# Altium footprint library TAUV-Lib.PcbLib: 56 footprints (part 4 of 4)
Each footprint in its own frame and in the unit in brackets; x right, y up, seen from the top. Pads: shape width x height; smd on the part's side, far side on the other; paste and mask are expansions set on the pad; w line width, h text height; cw(c..) or ccw(c..) is an arc to the next point about the centre after c.
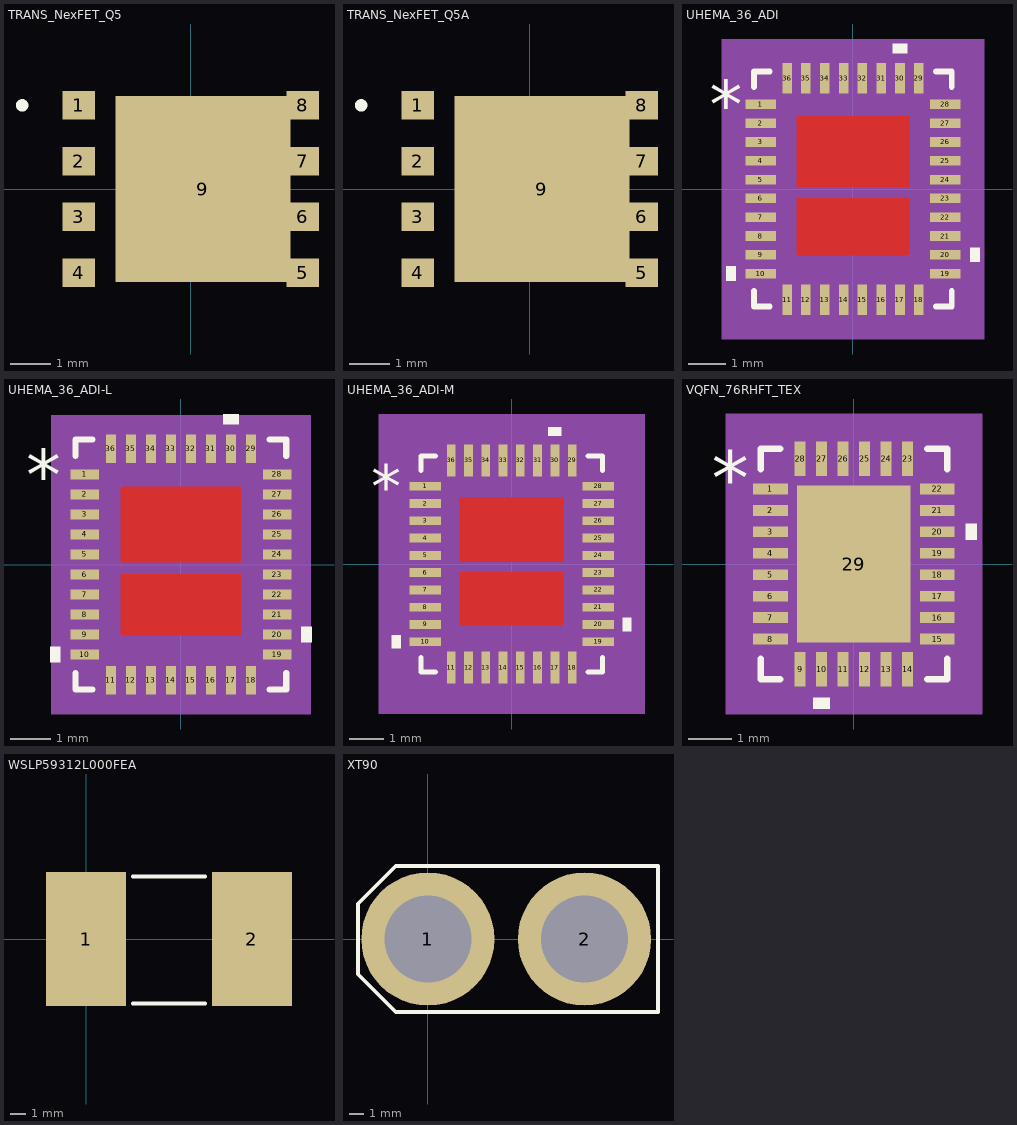
[diagram p3: the footprints below, top view; thin cyan lines are the x and y axes]

## TRANS_NexFET_Q5 [mm]
pads (9):
  rect 0.8x0.7 smd paste-0.387: 1(-2.752,2.055) 2(-2.752,0.685) 3(-2.752,-0.685) 4(-2.752,-2.055) 5(2.752,-2.055) 6(2.752,-0.685) 7(2.752,0.685) 8(2.752,2.055)
  rect 4.3x4.56 smd paste-2.267 mask+0.025: 9(0.3,0)
Top Overlay:
  circle w0.152: c-4.141,2.055 r0.076
Top Paste:
  region: -0.617,2.18 -1.85,2.18 -1.85,0.86 -0.617,0.86
  region: -0.617,0.66 -1.85,0.66 -1.85,-0.66 -0.617,-0.66
  region: -0.617,-0.86 -1.85,-0.86 -1.85,-2.18 -0.617,-2.18
  region: 0.817,2.18 -0.417,2.18 -0.417,0.86 0.817,0.86
  region: 0.817,0.66 -0.417,0.66 -0.417,-0.66 0.817,-0.66
  region: 0.817,-0.86 -0.417,-0.86 -0.417,-2.18 0.817,-2.18
  region: 2.25,2.18 1.017,2.18 1.017,0.86 2.25,0.86
  region: 2.25,0.66 1.017,0.66 1.017,-0.66 2.25,-0.66
  region: 2.25,-0.86 1.017,-0.86 1.017,-2.18 2.25,-2.18
  region: -2.352,2.405 -3.153,2.405 -3.153,1.705 -2.352,1.705
  region: -2.352,1.035 -3.153,1.035 -3.153,0.335 -2.352,0.335
  region: -2.352,-0.335 -3.153,-0.335 -3.153,-1.035 -2.352,-1.035
  region: -2.352,-1.705 -3.153,-1.705 -3.153,-2.405 -2.352,-2.405
  region: 3.153,-1.705 2.352,-1.705 2.352,-2.405 3.153,-2.405
  region: 3.153,-0.335 2.352,-0.335 2.352,-1.035 3.153,-1.035
  region: 3.153,1.035 2.352,1.035 2.352,0.335 3.153,0.335
  region: 3.153,2.405 2.352,2.405 2.352,1.705 3.153,1.705
Top Solder:
  region: -2.352,2.405 -3.153,2.405 -3.153,1.705 -2.352,1.705
  region: -2.352,1.035 -3.153,1.035 -3.153,0.335 -2.352,0.335
  region: -2.352,-0.335 -3.153,-0.335 -3.153,-1.035 -2.352,-1.035
  region: -2.352,-1.705 -3.153,-1.705 -3.153,-2.405 -2.352,-2.405
  region: 3.153,-1.705 2.352,-1.705 2.352,-2.405 3.153,-2.405
  region: 3.153,-0.335 2.352,-0.335 2.352,-1.035 3.153,-1.035
  region: 3.153,1.035 2.352,1.035 2.352,0.335 3.153,0.335
  region: 3.153,2.405 2.352,2.405 2.352,1.705 3.153,1.705
  region: 2.35,-2.28 2.35,2.28 -1.95,2.28 -1.95,-2.28
3D body: height 0.25, standoff 0, extent 0,0 0.254,0.254

## TRANS_NexFET_Q5A [mm]
pads (9):
  rect 0.8x0.7 smd paste-0.387: 1(-2.752,2.055) 2(-2.752,0.685) 3(-2.752,-0.685) 4(-2.752,-2.055) 5(2.752,-2.055) 6(2.752,-0.685) 7(2.752,0.685) 8(2.752,2.055)
  rect 4.3x4.56 smd paste-2.267 mask+0.025: 9(0.3,0)
Top Overlay:
  circle w0.152: c-4.141,2.055 r0.076
Top Paste:
  region: 3.153,2.405 2.352,2.405 2.352,1.705 3.153,1.705
  region: 3.153,1.035 2.352,1.035 2.352,0.335 3.153,0.335
  region: 3.153,-0.335 2.352,-0.335 2.352,-1.035 3.153,-1.035
  region: 3.153,-1.705 2.352,-1.705 2.352,-2.405 3.153,-2.405
  region: -2.352,-1.705 -3.153,-1.705 -3.153,-2.405 -2.352,-2.405
  region: -2.352,-0.335 -3.153,-0.335 -3.153,-1.035 -2.352,-1.035
  region: -2.352,1.035 -3.153,1.035 -3.153,0.335 -2.352,0.335
  region: -2.352,2.405 -3.153,2.405 -3.153,1.705 -2.352,1.705
  region: 2.25,-0.86 1.017,-0.86 1.017,-2.18 2.25,-2.18
  region: 2.25,0.66 1.017,0.66 1.017,-0.66 2.25,-0.66
  region: 2.25,2.18 1.017,2.18 1.017,0.86 2.25,0.86
  region: 0.817,-0.86 -0.417,-0.86 -0.417,-2.18 0.817,-2.18
  region: 0.817,0.66 -0.417,0.66 -0.417,-0.66 0.817,-0.66
  region: 0.817,2.18 -0.417,2.18 -0.417,0.86 0.817,0.86
  region: -0.617,-0.86 -1.85,-0.86 -1.85,-2.18 -0.617,-2.18
  region: -0.617,0.66 -1.85,0.66 -1.85,-0.66 -0.617,-0.66
  region: -0.617,2.18 -1.85,2.18 -1.85,0.86 -0.617,0.86
Top Solder:
  region: 2.35,-2.28 2.35,2.28 -1.95,2.28 -1.95,-2.28
  region: 3.153,2.405 2.352,2.405 2.352,1.705 3.153,1.705
  region: 3.153,1.035 2.352,1.035 2.352,0.335 3.153,0.335
  region: 3.153,-0.335 2.352,-0.335 2.352,-1.035 3.153,-1.035
  region: 3.153,-1.705 2.352,-1.705 2.352,-2.405 3.153,-2.405
  region: -2.352,-1.705 -3.153,-1.705 -3.153,-2.405 -2.352,-2.405
  region: -2.352,-0.335 -3.153,-0.335 -3.153,-1.035 -2.352,-1.035
  region: -2.352,1.035 -3.153,1.035 -3.153,0.335 -2.352,0.335
  region: -2.352,2.405 -3.153,2.405 -3.153,1.705 -2.352,1.705
3D body: height 0.25, standoff 0, extent 0,0 0.254,0.254

## UHEMA_36_ADI [mil]
pads (36):
  rect 32x10 smd paste+0 mask+0: 1(-96.5,88.58) 2(-96.5,68.9) 3(-96.5,49.21) 4(-96.5,29.53) 5(-96.5,9.84) 6(-96.5,-9.84) 7(-96.5,-29.53) 8(-96.5,-49.21) 9(-96.5,-68.9) 10(-96.5,-88.58) 19(96.5,-88.58) 20(96.5,-68.9) 21(96.5,-49.21) 22(96.5,-29.53) 23(96.5,-9.84) 24(96.5,9.84) 25(96.5,29.53) 26(96.5,49.21) 27(96.5,68.9) 28(96.5,88.58)
  rect 10x32 smd paste+0 mask+0: 11(-68.9,-116) 12(-49.21,-116) 13(-29.53,-116) 14(-9.84,-116) 15(9.84,-116) 16(29.53,-116) 17(49.21,-116) 18(68.9,-116) 29(68.9,116) 30(49.21,116) 31(29.53,116) 32(9.84,116) 33(-9.84,116) 34(-29.53,116) 35(-49.21,116) 36(-68.9,116)
Top Layer:
  region: -59,2.37 -59,76.37 59,76.37 59,2.37
  region: -59,-69.57 -59,-9.57 59,-9.57 59,-69.57
Top Overlay:
  region: -122.5,-81.08 -132.5,-81.08 -132.5,-96.08 -122.5,-96.08
  region: 122.5,-61.4 132.5,-61.4 132.5,-76.4 122.5,-76.4
  region: 56.71,142 41.71,142 41.71,152 56.71,152
  lines w6: -103.5,-106.68 -103.5,-123 -87,-123 ; -103.5,106.68 -103.5,123 -87,123 ; 87,-123 103.5,-123 103.5,-106.68 ; 87,123 103.5,123 103.5,106.68
  text "*" at -150,63.58 h50
Top Paste:
  region: -59,2.37 -59,76.37 59,76.37 59,2.37
  region: -59,-69.57 -59,-9.57 59,-9.57 59,-69.57
Top Solder:
  region: -59,2.37 -59,76.37 59,76.37 59,2.37
  region: -59,-69.57 -59,-9.57 59,-9.57 59,-69.57
Mechanical 5:
  region: 137.5,-157 -137.5,-157 -137.5,157 137.5,157
Mechanical 13:
  lines w1: -98.5,68 -48.5,118 ; -100.5,-94.58 -100.5,-82.58 -98.5,-82.58 -98.5,-94.58 -100.5,-94.58 ; -100.5,-74.9 -100.5,-62.9 -98.5,-62.9 -98.5,-74.9 -100.5,-74.9 ; -100.5,-55.21 -100.5,-43.21 -98.5,-43.21 -98.5,-55.21 -100.5,-55.21 ; -100.5,-35.53 -100.5,-23.53 -98.5,-23.53 -98.5,-35.53 -100.5,-35.53 ; -100.5,-15.84 -100.5,-3.84 -98.5,-3.84 -98.5,-15.84 -100.5,-15.84 ; -100.5,3.84 -100.5,15.84 -98.5,15.84 -98.5,3.84 -100.5,3.84 ; -100.5,23.53 -100.5,35.53 -98.5,35.53 -98.5,23.53 -100.5,23.53 ; -100.5,43.21 -100.5,55.21 -98.5,55.21 -98.5,43.21 -100.5,43.21 ; -100.5,62.9 -100.5,74.9 -98.5,74.9 -98.5,62.9 -100.5,62.9 ; -100.5,82.58 -100.5,94.58 -98.5,94.58 -98.5,82.58 -100.5,82.58 ; -98.5,-118 98.5,-118 98.5,118 -98.5,118 -98.5,-118 ; -74.9,-120 -74.9,-118 -62.9,-118 -62.9,-120 -74.9,-120 ; -74.9,118 -62.9,118 -62.9,120 -74.9,120 -74.9,118 ; -55.21,-120 -55.21,-118 -43.21,-118 -43.21,-120 -55.21,-120 ; -55.21,118 -43.21,118 -43.21,120 -55.21,120 -55.21,118 ; -35.53,-120 -35.53,-118 -23.53,-118 -23.53,-120 -35.53,-120 ; -35.53,118 -23.53,118 -23.53,120 -35.53,120 -35.53,118 ; -15.84,-120 -15.84,-118 -3.84,-118 -3.84,-120 -15.84,-120 ; -15.84,118 -3.84,118 -3.84,120 -15.84,120 -15.84,118 ; 3.84,-120 3.84,-118 15.84,-118 15.84,-120 3.84,-120 ; 3.84,118 15.84,118 15.84,120 3.84,120 3.84,118 ; 23.53,-120 23.53,-118 35.53,-118 35.53,-120 23.53,-120 ; 23.53,118 35.53,118 35.53,120 23.53,120 23.53,118 ; 43.21,-120 43.21,-118 55.21,-118 55.21,-120 43.21,-120 ; 43.21,118 55.21,118 55.21,120 43.21,120 43.21,118 ; 62.9,-120 62.9,-118 74.9,-118 74.9,-120 62.9,-120 ; 62.9,118 74.9,118 74.9,120 62.9,120 62.9,118 ; 98.5,-94.58 98.5,-82.58 100.5,-82.58 100.5,-94.58 98.5,-94.58 ; 98.5,-74.9 98.5,-62.9 100.5,-62.9 100.5,-74.9 98.5,-74.9 ; 98.5,-55.21 98.5,-43.21 100.5,-43.21 100.5,-55.21 98.5,-55.21 ; 98.5,-35.53 98.5,-23.53 100.5,-23.53 100.5,-35.53 98.5,-35.53 ; 98.5,-15.84 98.5,-3.84 100.5,-3.84 100.5,-15.84 98.5,-15.84 ; 98.5,3.84 98.5,15.84 100.5,15.84 100.5,3.84 98.5,3.84 ; 98.5,23.53 98.5,35.53 100.5,35.53 100.5,23.53 98.5,23.53 ; 98.5,43.21 98.5,55.21 100.5,55.21 100.5,43.21 98.5,43.21 ; 98.5,62.9 98.5,74.9 100.5,74.9 100.5,62.9 98.5,62.9 ; 98.5,82.58 98.5,94.58 100.5,94.58 100.5,82.58 98.5,82.58
  text "*" at -68,63.58 h50
Mechanical 15:
  region: -83.9,-128 -108.5,-128 -108.5,-103.58 -122.5,-103.58 -122.5,103.58 -108.5,103.58 -108.5,128 -83.9,128 -83.9,142 83.9,142 83.9,128 108.5,128 108.5,103.58 122.5,103.58 122.5,-103.58 108.5,-103.58 108.5,-128 83.9,-128 83.9,-142 -83.9,-142
  lines w6: -122.5,-103.58 -108.5,-103.58 -108.5,-128 -83.9,-128 -83.9,-142 83.9,-142 83.9,-128 108.5,-128 108.5,-103.58 122.5,-103.58 122.5,103.58 108.5,103.58 108.5,128 83.9,128 83.9,142 -83.9,142 -83.9,128 -108.5,128 -108.5,103.58 -122.5,103.58 -122.5,-103.58
3D body "UHEMA_36_ADI.step": height 32.09, standoff 0, extent -100.51,-120 100.51,120

## UHEMA_36_ADI-L [mil]
pads (36):
  rect 28x10 smd paste+0 mask+0: 1(-94.5,88.58) 2(-94.5,68.9) 3(-94.5,49.21) 4(-94.5,29.53) 5(-94.5,9.84) 6(-94.5,-9.84) 7(-94.5,-29.53) 8(-94.5,-49.21) 9(-94.5,-68.9) 10(-94.5,-88.58) 19(94.5,-88.58) 20(94.5,-68.9) 21(94.5,-49.21) 22(94.5,-29.53) 23(94.5,-9.84) 24(94.5,9.84) 25(94.5,29.53) 26(94.5,49.21) 27(94.5,68.9) 28(94.5,88.58)
  rect 10x28 smd paste+0 mask+0: 11(-68.9,-114) 12(-49.21,-114) 13(-29.53,-114) 14(-9.84,-114) 15(9.84,-114) 16(29.53,-114) 17(49.21,-114) 18(68.9,-114) 29(68.9,114) 30(49.21,114) 31(29.53,114) 32(9.84,114) 33(-9.84,114) 34(-29.53,114) 35(-49.21,114) 36(-68.9,114)
Top Layer:
  region: -59,2.37 -59,76.37 59,76.37 59,2.37
  region: -59,-69.57 -59,-9.57 59,-9.57 59,-69.57
Top Overlay:
  region: -118.5,-81.08 -128.5,-81.08 -128.5,-96.08 -118.5,-96.08
  region: 118.5,-61.4 128.5,-61.4 128.5,-76.4 118.5,-76.4
  region: 56.71,138 41.71,138 41.71,148 56.71,148
  lines w6: -103.5,-106.68 -103.5,-123 -87,-123 ; -103.5,106.68 -103.5,123 -87,123 ; 87,-123 103.5,-123 103.5,-106.68 ; 87,123 103.5,123 103.5,106.68
  text "*" at -152,63.58 h50
Top Paste:
  region: -59,2.37 -59,76.37 59,76.37 59,2.37
  region: -59,-69.57 -59,-9.57 59,-9.57 59,-69.57
Top Solder:
  region: -59,2.37 -59,76.37 59,76.37 59,2.37
  region: -59,-69.57 -59,-9.57 59,-9.57 59,-69.57
Mechanical 5:
  region: 127.5,-147 -127.5,-147 -127.5,147 127.5,147
Mechanical 13:
  lines w1: -98.5,68 -48.5,118 ; -100.5,-94.58 -100.5,-82.58 -98.5,-82.58 -98.5,-94.58 -100.5,-94.58 ; -100.5,-74.9 -100.5,-62.9 -98.5,-62.9 -98.5,-74.9 -100.5,-74.9 ; -100.5,-55.21 -100.5,-43.21 -98.5,-43.21 -98.5,-55.21 -100.5,-55.21 ; -100.5,-35.53 -100.5,-23.53 -98.5,-23.53 -98.5,-35.53 -100.5,-35.53 ; -100.5,-15.84 -100.5,-3.84 -98.5,-3.84 -98.5,-15.84 -100.5,-15.84 ; -100.5,3.84 -100.5,15.84 -98.5,15.84 -98.5,3.84 -100.5,3.84 ; -100.5,23.53 -100.5,35.53 -98.5,35.53 -98.5,23.53 -100.5,23.53 ; -100.5,43.21 -100.5,55.21 -98.5,55.21 -98.5,43.21 -100.5,43.21 ; -100.5,62.9 -100.5,74.9 -98.5,74.9 -98.5,62.9 -100.5,62.9 ; -100.5,82.58 -100.5,94.58 -98.5,94.58 -98.5,82.58 -100.5,82.58 ; -98.5,-118 98.5,-118 98.5,118 -98.5,118 -98.5,-118 ; -74.9,-120 -74.9,-118 -62.9,-118 -62.9,-120 -74.9,-120 ; -74.9,118 -62.9,118 -62.9,120 -74.9,120 -74.9,118 ; -55.21,-120 -55.21,-118 -43.21,-118 -43.21,-120 -55.21,-120 ; -55.21,118 -43.21,118 -43.21,120 -55.21,120 -55.21,118 ; -35.53,-120 -35.53,-118 -23.53,-118 -23.53,-120 -35.53,-120 ; -35.53,118 -23.53,118 -23.53,120 -35.53,120 -35.53,118 ; -15.84,-120 -15.84,-118 -3.84,-118 -3.84,-120 -15.84,-120 ; -15.84,118 -3.84,118 -3.84,120 -15.84,120 -15.84,118 ; 3.84,-120 3.84,-118 15.84,-118 15.84,-120 3.84,-120 ; 3.84,118 15.84,118 15.84,120 3.84,120 3.84,118 ; 23.53,-120 23.53,-118 35.53,-118 35.53,-120 23.53,-120 ; 23.53,118 35.53,118 35.53,120 23.53,120 23.53,118 ; 43.21,-120 43.21,-118 55.21,-118 55.21,-120 43.21,-120 ; 43.21,118 55.21,118 55.21,120 43.21,120 43.21,118 ; 62.9,-120 62.9,-118 74.9,-118 74.9,-120 62.9,-120 ; 62.9,118 74.9,118 74.9,120 62.9,120 62.9,118 ; 98.5,-94.58 98.5,-82.58 100.5,-82.58 100.5,-94.58 98.5,-94.58 ; 98.5,-74.9 98.5,-62.9 100.5,-62.9 100.5,-74.9 98.5,-74.9 ; 98.5,-55.21 98.5,-43.21 100.5,-43.21 100.5,-55.21 98.5,-55.21 ; 98.5,-35.53 98.5,-23.53 100.5,-23.53 100.5,-35.53 98.5,-35.53 ; 98.5,-15.84 98.5,-3.84 100.5,-3.84 100.5,-15.84 98.5,-15.84 ; 98.5,3.84 98.5,15.84 100.5,15.84 100.5,3.84 98.5,3.84 ; 98.5,23.53 98.5,35.53 100.5,35.53 100.5,23.53 98.5,23.53 ; 98.5,43.21 98.5,55.21 100.5,55.21 100.5,43.21 98.5,43.21 ; 98.5,62.9 98.5,74.9 100.5,74.9 100.5,62.9 98.5,62.9 ; 98.5,82.58 98.5,94.58 100.5,94.58 100.5,82.58 98.5,82.58
  text "*" at -62,63.58 h50
Mechanical 15:
  region: -77.9,-122 -102.5,-122 -102.5,-97.58 -112.5,-97.58 -112.5,97.58 -102.5,97.58 -102.5,122 -77.9,122 -77.9,132 77.9,132 77.9,122 102.5,122 102.5,97.58 112.5,97.58 112.5,-97.58 102.5,-97.58 102.5,-122 77.9,-122 77.9,-132 -77.9,-132
  lines w6: -112.5,-97.58 -102.5,-97.58 -102.5,-122 -77.9,-122 -77.9,-132 77.9,-132 77.9,-122 102.5,-122 102.5,-97.58 112.5,-97.58 112.5,97.58 102.5,97.58 102.5,122 77.9,122 77.9,132 -77.9,132 -77.9,122 -102.5,122 -102.5,97.58 -112.5,97.58 -112.5,-97.58
3D body "UHEMA_36_ADI.step": height 32.09, standoff 0, extent -100.51,-120 100.51,120

## UHEMA_36_ADI-M [mil]
pads (36):
  rect 36x10 smd paste+0 mask+0: 1(-98.5,88.58) 2(-98.5,68.9) 3(-98.5,49.21) 4(-98.5,29.53) 5(-98.5,9.84) 6(-98.5,-9.84) 7(-98.5,-29.53) 8(-98.5,-49.21) 9(-98.5,-68.9) 10(-98.5,-88.58) 19(98.5,-88.58) 20(98.5,-68.9) 21(98.5,-49.21) 22(98.5,-29.53) 23(98.5,-9.84) 24(98.5,9.84) 25(98.5,29.53) 26(98.5,49.21) 27(98.5,68.9) 28(98.5,88.58)
  rect 10x36 smd paste+0 mask+0: 11(-68.9,-118) 12(-49.21,-118) 13(-29.53,-118) 14(-9.84,-118) 15(9.84,-118) 16(29.53,-118) 17(49.21,-118) 18(68.9,-118) 29(68.9,118) 30(49.21,118) 31(29.53,118) 32(9.84,118) 33(-9.84,118) 34(-29.53,118) 35(-49.21,118) 36(-68.9,118)
Top Layer:
  region: -59,-69.57 -59,-9.57 59,-9.57 59,-69.57
  region: -59,2.37 -59,76.37 59,76.37 59,2.37
Top Overlay:
  region: 56.71,146 41.71,146 41.71,156 56.71,156
  region: 126.5,-61.4 136.5,-61.4 136.5,-76.4 126.5,-76.4
  region: -126.5,-81.08 -136.5,-81.08 -136.5,-96.08 -126.5,-96.08
  lines w6: -103.5,-106.68 -103.5,-123 -87,-123 ; -103.5,106.68 -103.5,123 -87,123 ; 87,-123 103.5,-123 103.5,-106.68 ; 87,123 103.5,123 103.5,106.68
  text "*" at -160,63.58 h50
Top Paste:
  region: -59,-69.57 -59,-9.57 59,-9.57 59,-69.57
  region: -59,2.37 -59,76.37 59,76.37 59,2.37
Top Solder:
  region: -59,-69.57 -59,-9.57 59,-9.57 59,-69.57
  region: -59,2.37 -59,76.37 59,76.37 59,2.37
Mechanical 5:
  region: 151.5,-171 -151.5,-171 -151.5,171 151.5,171
Mechanical 13:
  lines w1: -98.5,68 -48.5,118 ; -100.5,-94.58 -98.5,-94.58 -98.5,-82.58 -100.5,-82.58 -100.5,-94.58 ; -100.5,-74.9 -98.5,-74.9 -98.5,-62.9 -100.5,-62.9 -100.5,-74.9 ; -100.5,-55.21 -98.5,-55.21 -98.5,-43.21 -100.5,-43.21 -100.5,-55.21 ; -100.5,-35.53 -98.5,-35.53 -98.5,-23.53 -100.5,-23.53 -100.5,-35.53 ; -100.5,-15.84 -98.5,-15.84 -98.5,-3.84 -100.5,-3.84 -100.5,-15.84 ; -100.5,3.84 -98.5,3.84 -98.5,15.84 -100.5,15.84 -100.5,3.84 ; -100.5,23.53 -98.5,23.53 -98.5,35.53 -100.5,35.53 -100.5,23.53 ; -100.5,43.21 -98.5,43.21 -98.5,55.21 -100.5,55.21 -100.5,43.21 ; -100.5,62.9 -98.5,62.9 -98.5,74.9 -100.5,74.9 -100.5,62.9 ; -100.5,82.58 -98.5,82.58 -98.5,94.58 -100.5,94.58 -100.5,82.58 ; -98.5,-118 -98.5,118 98.5,118 98.5,-118 -98.5,-118 ; -74.9,-120 -62.9,-120 -62.9,-118 -74.9,-118 -74.9,-120 ; -74.9,118 -74.9,120 -62.9,120 -62.9,118 -74.9,118 ; -55.21,-120 -43.21,-120 -43.21,-118 -55.21,-118 -55.21,-120 ; -55.21,118 -55.21,120 -43.21,120 -43.21,118 -55.21,118 ; -35.53,-120 -23.53,-120 -23.53,-118 -35.53,-118 -35.53,-120 ; -35.53,118 -35.53,120 -23.53,120 -23.53,118 -35.53,118 ; -15.84,-120 -3.84,-120 -3.84,-118 -15.84,-118 -15.84,-120 ; -15.84,118 -15.84,120 -3.84,120 -3.84,118 -15.84,118 ; 3.84,-120 15.84,-120 15.84,-118 3.84,-118 3.84,-120 ; 3.84,118 3.84,120 15.84,120 15.84,118 3.84,118 ; 23.53,-120 35.53,-120 35.53,-118 23.53,-118 23.53,-120 ; 23.53,118 23.53,120 35.53,120 35.53,118 23.53,118 ; 43.21,-120 55.21,-120 55.21,-118 43.21,-118 43.21,-120 ; 43.21,118 43.21,120 55.21,120 55.21,118 43.21,118 ; 62.9,-120 74.9,-120 74.9,-118 62.9,-118 62.9,-120 ; 62.9,118 62.9,120 74.9,120 74.9,118 62.9,118 ; 98.5,-94.58 100.5,-94.58 100.5,-82.58 98.5,-82.58 98.5,-94.58 ; 98.5,-74.9 100.5,-74.9 100.5,-62.9 98.5,-62.9 98.5,-74.9 ; 98.5,-55.21 100.5,-55.21 100.5,-43.21 98.5,-43.21 98.5,-55.21 ; 98.5,-35.53 100.5,-35.53 100.5,-23.53 98.5,-23.53 98.5,-35.53 ; 98.5,-15.84 100.5,-15.84 100.5,-3.84 98.5,-3.84 98.5,-15.84 ; 98.5,3.84 100.5,3.84 100.5,15.84 98.5,15.84 98.5,3.84 ; 98.5,23.53 100.5,23.53 100.5,35.53 98.5,35.53 98.5,23.53 ; 98.5,43.21 100.5,43.21 100.5,55.21 98.5,55.21 98.5,43.21 ; 98.5,62.9 100.5,62.9 100.5,74.9 98.5,74.9 98.5,62.9 ; 98.5,82.58 100.5,82.58 100.5,94.58 98.5,94.58 98.5,82.58
  text "*" at -62,63.58 h50
Mechanical 15:
  region: -93.9,-138 -118.5,-138 -118.5,-113.58 -136.5,-113.58 -136.5,113.58 -118.5,113.58 -118.5,138 -93.9,138 -93.9,156 93.9,156 93.9,138 118.5,138 118.5,113.58 136.5,113.58 136.5,-113.58 118.5,-113.58 118.5,-138 93.9,-138 93.9,-156 -93.9,-156
  lines w6: -136.5,-113.58 -136.5,113.58 -118.5,113.58 -118.5,138 -93.9,138 -93.9,156 93.9,156 93.9,138 118.5,138 118.5,113.58 136.5,113.58 136.5,-113.58 118.5,-113.58 118.5,-138 93.9,-138 93.9,-156 -93.9,-156 -93.9,-138 -118.5,-138 -118.5,-113.58 -136.5,-113.58
3D body "UHEMA_36_ADI.step": height 32.09, standoff 0, extent -100.51,-120 100.51,120

## VQFN_76RHFT_TEX [mil]
pads (29):
  rect 32x10 smd paste+0 mask+0: 1(-76.5,68.92) 2(-76.5,49.23) 3(-76.5,29.54) 4(-76.5,9.85) 5(-76.5,-9.85) 6(-76.5,-29.54) 7(-76.5,-49.23) 8(-76.5,-68.92) 15(76.5,-68.92) 16(76.5,-49.23) 17(76.5,-29.54) 18(76.5,-9.85) 19(76.5,9.85) 20(76.5,29.54) 21(76.5,49.23) 22(76.5,68.92)
  rect 10x32 smd paste+0 mask+0: 9(-49.23,-96.5) 10(-29.54,-96.5) 11(-9.85,-96.5) 12(9.85,-96.5) 13(29.54,-96.5) 14(49.23,-96.5) 23(49.23,96.5) 24(29.54,96.5) 25(9.85,96.5) 26(-9.85,96.5) 27(-29.54,96.5) 28(-49.23,96.5)
  rect 104x144 smd paste-71.5 mask+0: 29(0,0)
Top Overlay:
  region: 102.5,37.03 112.5,37.03 112.5,22.04 102.5,22.04
  region: -22.04,-122.5 -37.03,-122.5 -37.03,-132.5 -22.04,-132.5
  lines w6: -85.5,-87.02 -85.5,-105.5 -67.33,-105.5 ; -85.5,87.02 -85.5,105.5 -67.33,105.5 ; 67.33,-105.5 85.5,-105.5 85.5,-87.02 ; 67.33,105.5 85.5,105.5 85.5,87.02
  text "*" at -130,53.76 h50
Top Paste:
  region: 48.06,-3.94 3.94,-3.94 3.94,-68.06 48.06,-68.06
  region: 48.06,68.06 3.94,68.06 3.94,3.94 48.06,3.94
  region: -3.94,-3.94 -48.06,-3.94 -48.06,-68.06 -3.94,-68.06
  region: -3.94,68.06 -48.06,68.06 -48.06,3.94 -3.94,3.94
Mechanical 5:
  region: 117.5,-137.5 -117.5,-137.5 -117.5,137.5 117.5,137.5
Mechanical 13:
  lines w1: -80.5,50.5 -30.5,100.5 ; -80.5,-100.5 -80.5,100.5 80.5,100.5 80.5,-100.5 -80.5,-100.5 ; -80.5,-74.92 -80.5,-62.91 -80.5,-74.92 ; -80.5,-55.23 -80.5,-43.23 -80.5,-55.23 ; -80.5,-35.53 -80.5,-23.54 -80.5,-35.53 ; -80.5,-15.85 -80.5,-3.85 -80.5,-15.85 ; -80.5,3.85 -80.5,15.85 -80.5,3.85 ; -80.5,23.54 -80.5,35.53 -80.5,23.54 ; -80.5,43.23 -80.5,55.23 -80.5,43.23 ; -80.5,62.91 -80.5,74.92 -80.5,62.91 ; -55.23,-100.5 -43.23,-100.5 -55.23,-100.5 ; -55.23,100.5 -43.23,100.5 -55.23,100.5 ; -35.53,-100.5 -23.54,-100.5 -35.53,-100.5 ; -35.53,100.5 -23.54,100.5 -35.53,100.5 ; -15.85,-100.5 -3.85,-100.5 -15.85,-100.5 ; -15.85,100.5 -3.85,100.5 -15.85,100.5 ; 3.85,-100.5 15.85,-100.5 3.85,-100.5 ; 3.85,100.5 15.85,100.5 3.85,100.5 ; 23.54,-100.5 35.53,-100.5 23.54,-100.5 ; 23.54,100.5 35.53,100.5 23.54,100.5 ; 43.23,-100.5 55.23,-100.5 43.23,-100.5 ; 43.23,100.5 55.23,100.5 43.23,100.5 ; 80.5,-74.92 80.5,-62.91 80.5,-74.92 ; 80.5,-55.23 80.5,-43.23 80.5,-55.23 ; 80.5,-35.53 80.5,-23.54 80.5,-35.53 ; 80.5,-15.85 80.5,-3.85 80.5,-15.85 ; 80.5,3.85 80.5,15.85 80.5,3.85 ; 80.5,23.54 80.5,35.53 80.5,23.54 ; 80.5,43.23 80.5,55.23 80.5,43.23 ; 80.5,62.91 80.5,74.92 80.5,62.91
  text "*" at -73,53.76 h50
Mechanical 15:
  region: -64.22,-110.5 -90.5,-110.5 -90.5,-83.92 -102.5,-83.92 -102.5,83.92 -90.5,83.92 -90.5,110.5 -64.22,110.5 -64.22,122.5 64.22,122.5 64.22,110.5 90.5,110.5 90.5,83.92 102.5,83.92 102.5,-83.92 90.5,-83.92 90.5,-110.5 64.22,-110.5 64.22,-122.5 -64.22,-122.5
  lines w6: -102.5,-83.92 -102.5,83.92 -90.5,83.92 -90.5,110.5 -64.22,110.5 -64.22,122.5 64.22,122.5 64.22,110.5 90.5,110.5 90.5,83.92 102.5,83.92 102.5,-83.92 90.5,-83.92 90.5,-110.5 64.22,-110.5 64.22,-122.5 -64.22,-122.5 -64.22,-110.5 -90.5,-110.5 -90.5,-83.92 -102.5,-83.92
3D body "VQFN_76RHFT_TEX.step": height 65.12, standoff 0, extent -80.51,-100.51 80.51,100.51

## WSLP59312L000FEA [mm] "0.002R 8W Shunt"
pads (2):
  rect 5.2x8.75 smd: 1(0,0) 2(10.8,0)
Top Overlay:
  lines w0.254: 3.048,-4.191 7.747,-4.191 ; 3.048,4.064 7.747,4.064
3D body "WSLP5931 (0.002).step": height 0.89, standoff 0, extent -2.166,-3.937 12.834,3.813

## XT90 [mm]
pads (2):
  round 9.5 hole 6.2: 1(0,0) 2(11.176,0)
Top Overlay:
  lines w0.254: -4.985,-2.508 -2.286,-5.207 16.415,-5.207 16.415,1.111 16.415,5.207 -2.286,5.207 -4.985,2.508 -4.985,-2.508
3D body: height 2.06, standoff 0, extent 5.08,-2.794 5.08,-2.794
3D body: height 2.06, standoff 0, extent 5.08,-2.794 5.08,-2.794
3D body "xt90_male_asm.stp": height 20.7, standoff -5.5, extent -4.985,-5.5 16.415,5.5